# Altium footprint library IFBpcblib.PcbLib: 127 footprints (part 7 of 8)
Each footprint in its own frame and in the unit in brackets; x right, y up, seen from the top. Pads: shape width x height; smd on the part's side, far side on the other; paste and mask are expansions set on the pad; w line width, h text height; cw(c..) or ccw(c..) is an arc to the next point about the centre after c.
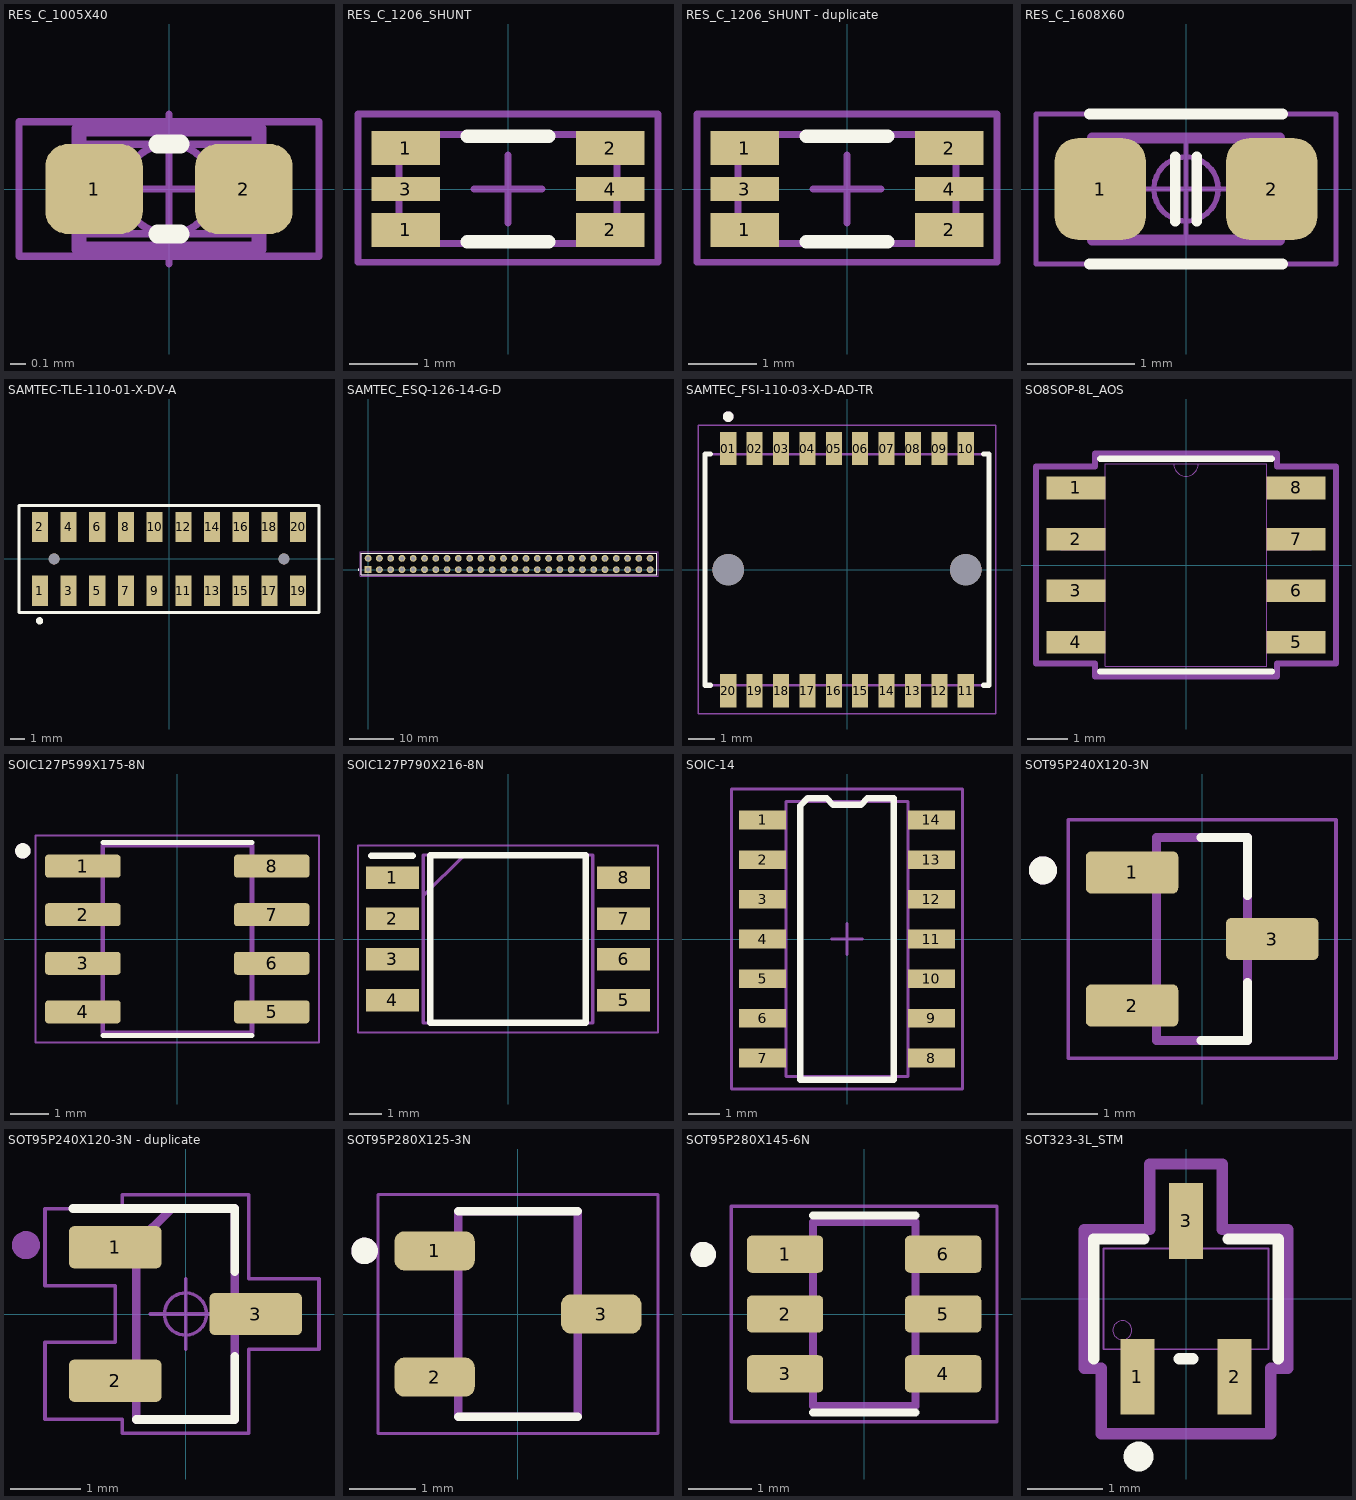
[diagram p6: the footprints below, top view; thin cyan lines are the x and y axes]

## RES_C_1005X40 [mm]
pads (2):
  rrect50% 0.65x0.6 smd mask+0.05: 1(-0.5,0) 2(0.5,0)
Top Overlay:
  lines w0.125: -0.075,-0.3 0.075,-0.3 ; -0.075,0.3 0.075,0.3
Top Assembly:
  lines w0.1: -0.6,-0.4 -0.6,0.4 0.6,0.4 0.6,-0.4 -0.6,-0.4
  text "'.Designator'" at -4.433,-0.827 h1.6
Top Courtyard:
  lines w0.05: -1,-0.45 -0.575,-0.45 1,-0.45 1,0.45 -1,0.45 -1,-0.45
Top Component Outline:
  rectangle: 0.25,-0.3 0.55,0.3
  rectangle: -0.55,-0.3 -0.25,0.3
  lines w0.05: -0.55,-0.3 -0.55,0.3 0.55,0.3 0.55,-0.3 -0.55,-0.3
Top Component Center:
  circle w0.05: c0,0 r0.3
  lines w0.05: -0.5,0 0.5,0 ; 0,-0.5 0,0.5
3D body "6-1622826-4.stp": height 0.38, standoff 0.02, extent -0.5,-0.25 0.5,0.25

## RES_C_1206_SHUNT [mm] "Chip Resistor, 2-Leads, Body 3.2x1.6mm, IPC Medium Density"
height 0.6
pads (6):
  rect 1x0.5 smd mask+0.05: 1(-1.5,-0.6) 1(-1.5,0.6) 2(1.5,-0.6) 2(1.5,0.6)
  rect 1x0.35 smd mask+0.05: 3(-1.5,0) 4(1.5,0)
Top Overlay:
  lines w0.2: -0.6,-0.775 0.6,-0.775 ; -0.6,0.775 0.6,0.775
Top Assembly:
  lines w0.1: -1.6,-0.8 1.6,-0.8 1.6,0.8 -1.6,0.8 -1.6,-0.8
  text ".Designator" at -1.4,-0.375 h0.75
Top Courtyard:
  lines w0.1: -0.5,0 0.5,0 ; 0,-0.5 0,0.5 ; -2.2,-1.075 -2.2,1.1 2.2,1.1 2.2,-1.075 -2.2,-1.075
Top 3D Body:
  lines w0.1: -1.6,-0.8 -1.6,0.8 1.6,0.8 1.6,-0.8 -1.6,-0.8
3D body "RES_1206.step": height 1, standoff 0, extent -1.6,-0.8 1.6,0.8

## RES_C_1206_SHUNT - duplicate [mm] "Chip Resistor, 2-Leads, Body 3.2x1.6mm, IPC Medium Density"
height 0.6
pads (6):
  rect 1x0.5 smd mask+0.05: 1(-1.5,-0.6) 1(-1.5,0.6) 2(1.5,-0.6) 2(1.5,0.6)
  rect 1x0.35 smd mask+0.05: 3(-1.5,0) 4(1.5,0)
Top Overlay:
  lines w0.2: -0.6,-0.775 0.6,-0.775 ; -0.6,0.775 0.6,0.775
Top Assembly:
  lines w0.1: -1.6,-0.8 -1.6,0.8 1.6,0.8 1.6,-0.8 -1.6,-0.8
  text ".Designator" at -1.4,-0.375 h0.75
Top Courtyard:
  lines w0.1: -0.5,0 0.5,0 ; 0,-0.5 0,0.5 ; -2.2,-1.075 2.2,-1.075 2.2,1.1 -2.2,1.1 -2.2,-1.075
Top 3D Body:
  lines w0.1: -1.6,-0.8 1.6,-0.8 1.6,0.8 -1.6,0.8 -1.6,-0.8
3D body "RES_1206.step": height 1, standoff 0, extent -1.6,-0.8 1.6,0.8

## RES_C_1608X60 [mm] "Chip Resistor, 2-Leads, Body 1.63x0.83mm, IPC High Density"
height 0.6
pads (2):
  rrect50% 0.85x0.95 smd: 1(-0.8,0) 2(0.8,0)
Top Overlay:
  lines w0.1: -0.9,-0.7 0.9,-0.7 ; -0.9,0.7 0.9,0.7 ; -0.1,-0.3 -0.1,0.3 ; 0.1,-0.3 0.1,0.3
Top Assembly:
  lines w0.1: -0.875,-0.475 0.875,-0.475 0.875,0.475 -0.875,0.475 -0.875,-0.475
  text "'.Designator'" at -4.217,-0.663 h1.6
Top Courtyard:
  lines w0.05: -1.4,-0.7 1.4,-0.7 1.4,0.7 -1.4,0.7 -1.4,-0.7
Top Component Outline:
  rectangle: 0.475,-0.475 0.875,0.475
  rectangle: -0.875,-0.475 -0.475,0.475
  lines w0.05: -0.875,-0.475 -0.875,0.475 0.875,0.475 0.875,-0.475 -0.875,-0.475
Top Component Center:
  circle w0.05: c0,0 r0.3
  lines w0.05: -0.5,0 0.5,0 ; 0,-0.5 0,0.5
3D body "RESC1608X60.step": height 0.6, standoff 0, extent -0.875,-0.475 0.875,0.475

## SAMTEC-TLE-110-01-X-DV-A [mm]
pads (22):
  rect 1.12x2.11 smd mask+0: 1(-9,-2.222) 2(-9,2.222) 3(-7,-2.222) 4(-7,2.222) 5(-5,-2.222) 6(-5,2.222) 7(-3,-2.222) 8(-3,2.222) 9(-1,-2.222) 10(-1,2.222) 11(1,-2.222) 12(1,2.222) 13(3,-2.222) 14(3,2.222) 15(5,-2.222) 16(5,2.222) 17(7,-2.222) 18(7,2.222) 19(9,-2.222) 20(9,2.222)
  round 0.76 hole 0.76 unplated: ""(-8,0) ""(8,0)
Top Overlay:
  circle w0.254: c-9.017,-4.318 r0.127
  lines w0.2: -10.45,-3.728 -10.45,3.729 10.45,3.729 10.45,-3.728 -10.45,-3.728
Top Paste:
  region: -8.44,-1.167 -9.56,-1.167 -9.56,-3.277 -8.44,-3.277
  region: -8.44,3.277 -9.56,3.277 -9.56,1.167 -8.44,1.167
  region: -6.44,3.277 -7.56,3.277 -7.56,1.167 -6.44,1.167
  region: -6.44,-1.167 -7.56,-1.167 -7.56,-3.277 -6.44,-3.277
  region: -4.44,3.277 -5.56,3.277 -5.56,1.167 -4.44,1.167
  region: -4.44,-1.167 -5.56,-1.167 -5.56,-3.277 -4.44,-3.277
  region: -2.44,3.277 -3.56,3.277 -3.56,1.167 -2.44,1.167
  region: -2.44,-1.167 -3.56,-1.167 -3.56,-3.277 -2.44,-3.277
  region: -0.44,3.277 -1.56,3.277 -1.56,1.167 -0.44,1.167
  region: -0.44,-1.167 -1.56,-1.167 -1.56,-3.277 -0.44,-3.277
  region: 1.56,3.277 0.44,3.277 0.44,1.167 1.56,1.167
  region: 1.56,-1.167 0.44,-1.167 0.44,-3.277 1.56,-3.277
  region: 3.56,-1.167 2.44,-1.167 2.44,-3.277 3.56,-3.277
  region: 3.56,3.277 2.44,3.277 2.44,1.167 3.56,1.167
  region: 5.56,-1.167 4.44,-1.167 4.44,-3.277 5.56,-3.277
  region: 5.56,3.277 4.44,3.277 4.44,1.167 5.56,1.167
  region: 7.56,3.277 6.44,3.277 6.44,1.167 7.56,1.167
  region: 7.56,-1.167 6.44,-1.167 6.44,-3.277 7.56,-3.277
  region: 9.56,3.277 8.44,3.277 8.44,1.167 9.56,1.167
  region: 9.56,-1.167 8.44,-1.167 8.44,-3.277 9.56,-3.277
Top Solder:
  circle w0: c-8,0 r0.431
  circle w0: c8,0 r0.431
  region: -8.389,3.328 -9.611,3.328 -9.611,1.116 -8.389,1.116
  region: -8.389,-1.116 -9.611,-1.116 -9.611,-3.328 -8.389,-3.328
  region: -6.389,3.328 -7.611,3.328 -7.611,1.116 -6.389,1.116
  region: -6.389,-1.116 -7.611,-1.116 -7.611,-3.328 -6.389,-3.328
  region: -4.389,3.328 -5.611,3.328 -5.611,1.116 -4.389,1.116
  region: -4.389,-1.116 -5.611,-1.116 -5.611,-3.328 -4.389,-3.328
  region: -2.389,3.328 -3.611,3.328 -3.611,1.116 -2.389,1.116
  region: -2.389,-1.116 -3.611,-1.116 -3.611,-3.328 -2.389,-3.328
  region: -0.389,3.328 -1.611,3.328 -1.611,1.116 -0.389,1.116
  region: -0.389,-1.116 -1.611,-1.116 -1.611,-3.328 -0.389,-3.328
  region: 1.611,3.328 0.389,3.328 0.389,1.116 1.611,1.116
  region: 1.611,-1.116 0.389,-1.116 0.389,-3.328 1.611,-3.328
  region: 3.611,3.328 2.389,3.328 2.389,1.116 3.611,1.116
  region: 3.611,-1.116 2.389,-1.116 2.389,-3.328 3.611,-3.328
  region: 5.611,3.328 4.389,3.328 4.389,1.116 5.611,1.116
  region: 5.611,-1.116 4.389,-1.116 4.389,-3.328 5.611,-3.328
  region: 7.611,3.328 6.389,3.328 6.389,1.116 7.611,1.116
  region: 7.611,-1.116 6.389,-1.116 6.389,-3.328 7.611,-3.328
  region: 9.611,3.328 8.389,3.328 8.389,1.116 9.611,1.116
  region: 9.611,-1.116 8.389,-1.116 8.389,-3.328 9.611,-3.328
Bottom Solder:
  circle w0: c-8,0 r0.431
  circle w0: c8,0 r0.431
3D body "TLE-110-01-G-DV-A-TR.stp": height 4.32, standoff -0.81, extent -9.995,-2.781 9.995,2.781

## SAMTEC_ESQ-126-14-G-D [mm]
pads (52):
  rect 1.53x1.53 hole 0.9: 01(0,0)
  round 1.53 hole 0.9: 02(0,2.54) 03(2.54,0) 04(2.54,2.54) 05(5.08,0) 06(5.08,2.54) 07(7.62,0) 08(7.62,2.54) 09(10.16,0) 10(10.16,2.54) 11(12.7,0) 12(12.7,2.54) 13(15.24,0) 14(15.24,2.54) 15(17.78,0) 16(17.78,2.54) 17(20.32,0) 18(20.32,2.54) 19(22.86,0) 20(22.86,2.54) 21(25.4,0) 22(25.4,2.54) 23(27.94,0) 24(27.94,2.54) 25(30.48,0) 26(30.48,2.54) 27(33.02,0) 28(33.02,2.54) 29(35.56,0) 30(35.56,2.54) 31(38.1,0) 32(38.1,2.54) 33(40.64,0) 34(40.64,2.54) 35(43.18,0) 36(43.18,2.54) 37(45.72,0) 38(45.72,2.54) 39(48.26,0) 40(48.26,2.54) 41(50.8,0) 42(50.8,2.54) 43(53.34,0) 44(53.34,2.54) 45(55.88,0) 46(55.88,2.54) 47(58.42,0) 48(58.42,2.54) 49(60.96,0) 50(60.96,2.54) 51(63.5,0) 52(63.5,2.54)
Top Overlay:
  circle w0.2: c-2.175,0 r0.1
  lines w0.2: -1.525,-1.205 65.025,-1.205 65.025,3.745 -1.525,3.745 -1.525,-1.205
Mechanical 13:
  circle w0.2: c-2.175,0 r0.1
  lines w0.1: -1.525,-1.205 -1.525,3.745 ; -1.525,-1.205 65.025,-1.205 ; -1.525,-1.205 -1.525,3.745 ; -1.525,3.745 65.025,3.745 ; -1.525,3.745 65.025,3.745 ; 65.025,-1.205 65.025,3.745 ; 65.025,-1.205 65.025,3.745
Mechanical 15:
  lines w0.05: -1.775,-1.455 65.275,-1.455 65.275,3.995 -1.775,3.995 -1.775,-1.455
3D body "ESQ-126-14-G-D.stp": height 11.1, standoff -12.14, extent -1.524,-1.27 65.024,3.81

## SAMTEC_FSI-110-03-X-D-AD-TR [mm]
pads (22):
  rect 0.61x1.26 smd: 01(-4.5,4.59) 02(-3.5,4.59) 03(-2.5,4.59) 04(-1.5,4.59) 05(-0.5,4.59) 06(0.5,4.59) 07(1.5,4.59) 08(2.5,4.59) 09(3.5,4.59) 10(4.5,4.59) 11(4.5,-4.59) 12(3.5,-4.59) 13(2.5,-4.59) 14(1.5,-4.59) 15(0.5,-4.59) 16(-0.5,-4.59) 17(-1.5,-4.59) 18(-2.5,-4.59) 19(-3.5,-4.59) 20(-4.5,-4.59)
  round 1.19 hole 1.19 unplated: ""(-4.5,0) ""(4.5,0)
Top Overlay:
  circle w0.2: c-4.5,5.8 r0.1
  lines w0.2: -5.18,-4.38 -5.38,-4.38 -5.38,4.38 -5.18,4.38 ; 5.18,-4.38 5.38,-4.38 5.38,4.38 5.18,4.38
Mechanical 13:
  circle w0.2: c-4.5,5.8 r0.1
  lines w0.1: -5.38,-4.38 5.38,-4.38 5.38,4.38 -5.38,4.38 -5.38,-4.38
Mechanical 15:
  lines w0.05: -5.63,-5.47 5.63,-5.47 5.63,5.47 -5.63,5.47 -5.63,-5.47
3D body "FSI-110-03-G-D-AD.stp": height 4.37, standoff -1.42, extent -5.38,-5 5.38,5

## SO8SOP-8L_AOS [mil]
pads (8):
  rect 57.5x22 smd paste+0 mask+0: 1(-107.25,75) 2(-107.25,25) 3(-107.25,-25) 4(-107.25,-75) 5(107.25,-75) 6(107.25,-25) 7(107.25,25) 8(107.25,75)
Top Overlay:
  lines w6: -83.5,-103.5 83.5,-103.5 ; -83.5,103.5 83.5,103.5
Mechanical 13:
  lines w0: -12,98.5 ccw(c0,98.5) 12,98.5
  lines w1: -122,-85 -78.5,-85 -78.5,-65 -122,-65 -122,-85 ; -122,-35 -78.5,-35 -78.5,-15 -122,-15 -122,-35 ; -122,15 -78.5,15 -78.5,35 -122,35 -122,15 ; -122,65 -78.5,65 -78.5,85 -122,85 -122,65 ; -78.5,-98.5 -78.5,98.5 78.5,98.5 78.5,-98.5 -78.5,-98.5 ; 78.5,-85 122,-85 122,-65 78.5,-65 78.5,-85 ; 78.5,-35 122,-35 122,-15 78.5,-15 78.5,-35 ; 78.5,15 122,15 122,35 78.5,35 78.5,15 ; 78.5,65 122,65 122,85 78.5,85 78.5,65
Mechanical 15:
  lines w6: -146,-96 -88.5,-96 -88.5,-108.5 88.5,-108.5 88.5,-96 146,-96 146,96 88.5,96 88.5,108.5 -88.5,108.5 -88.5,96 -146,96 -146,-96
3D body "SO8SOP-8L_AOS.step": height 69.09, standoff 0, extent -122.01,-98.5 122.01,98.5

## SOIC127P599X175-8N [mm] "SN65HVD230DR"
pads (8):
  rrect25% 1.97x0.6 smd: 1(-2.47,1.905) 2(-2.47,0.635) 3(-2.47,-0.635) 4(-2.47,-1.905) 5(2.47,-1.905) 6(2.47,-0.635) 7(2.47,0.635) 8(2.47,1.905)
Top Overlay:
  circle w0.2: c-4.04,2.305 r0.1
  lines w0.127: -1.95,-2.525 1.95,-2.525 ; -1.95,2.525 1.95,2.525
Mechanical 13:
  circle w0.2: c-4.04,2.305 r0.1
  lines w0.127: -1.95,-2.452 1.95,-2.452 1.95,2.452 -1.95,2.452 -1.95,-2.452
Mechanical 15:
  lines w0.05: -3.705,-2.702 3.705,-2.702 3.705,2.702 -3.705,2.702 -3.705,-2.702
3D body "step_temp.STEP": height 1.75, standoff 0, extent -3,-2.45 3,2.45

## SOIC127P790X216-8N [mm]
pads (8):
  rect 1.65x0.7 smd: 1(-3.6,1.905) 2(-3.6,0.635) 3(-3.6,-0.635) 4(-3.6,-1.905) 5(3.6,-1.905) 6(3.6,-0.635) 7(3.6,0.635) 8(3.6,1.905)
Top Overlay:
  lines w0.2: -4.267,2.591 -2.972,2.591 ; -2.425,-2.615 -2.425,2.615 2.425,2.615 2.425,-2.615 -2.425,-2.615
Mechanical 15:
  lines w0.1: -2.64,1.345 -1.37,2.615 ; -2.64,-2.615 -2.64,2.615 2.64,2.615 2.64,-2.615 -2.64,-2.615
Mechanical 20:
  lines w0.05: -4.675,-2.915 -4.675,2.915 4.675,2.915 4.675,-2.915 -4.675,-2.915
3D body "AS3004204-0108X0PSAY.stp": height 2.16, standoff 0, extent -3.95,-2.615 3.95,2.615

## SOIC-14 [mm] "SOIC 150mil, 14-Leads, Body 8.65x3.9mm, Pitch 1.27mm"
height 1.75
pads (14):
  rect 1.5x0.6 smd: 1(-2.7,3.81) 2(-2.7,2.54) 3(-2.7,1.27) 4(-2.7,0) 5(-2.7,-1.27) 6(-2.7,-2.54) 7(-2.7,-3.81) 8(2.7,-3.81) 9(2.7,-2.54) 10(2.7,-1.27) 11(2.7,0) 12(2.7,1.27) 13(2.7,2.54) 14(2.7,3.81)
Top Overlay:
  lines w0.2: -1.5,-4.5 -1.5,4.265 -1.265,4.5 -0.65,4.5 -0.45,4.3 0.45,4.3 0.65,4.5 1.5,4.5 1.5,-4.5 -1.5,-4.5
Top Assembly:
  lines w0.1: -1.95,-4.4 1.95,-4.4 1.95,4.4 -1.95,4.4 -1.95,-4.4
  text "1" at -3.429,3.937 h1
Top Courtyard:
  lines w0.1: -0.5,0 0.5,0 ; 0,-0.5 0,0.5 ; -3.7,-4.8 3.7,-4.8 3.7,4.8 -3.7,4.8 -3.7,-4.8
3D body "SOIC-14.STEP": height 1.75, standoff 0, extent -3.1,-4.375 3.1,4.375

## SOT95P240X120-3N [mm]
height 1.2
pads (3):
  rrect25% 1.32x0.6 smd: 1(-1,0.95) 2(-1,-0.95) 3(1,0)
Top Overlay:
  circle w0.2: c-2.27,0.98 r0.1
  lines w0.127: -0.02,-1.45 0.65,-1.45 0.65,-0.62 ; -0.02,1.45 0.65,1.45 0.65,0.62
Mechanical 13:
  circle w0.2: c-2.27,0.98 r0.1
  lines w0.127: -0.65,-1.45 0.65,-1.45 0.65,1.45 -0.65,1.45 -0.65,-1.45
Mechanical 15:
  lines w0.05: -1.91,-1.7 -1.91,1.7 1.91,1.7 1.91,-1.7 -1.91,-1.7
3D body "step_temp.STEP": height 1.2, standoff 0, extent -1.2,-1.45 1.2,1.45

## SOT95P240X120-3N - duplicate [mm]
height 1.2
pads (3):
  rrect25% 1.32x0.6 smd: 1(-1,0.95) 2(-1,-0.95) 3(1,0)
Top Overlay:
  lines w0.125: -1.6,1.5 0.6,1.5 0.7,1.5 0.7,0.6 ; -0.7,-1.5 0.7,-1.5 0.7,-0.6
Top Assembly:
  lines w0.125: -0.7,-1.5 0.7,-1.5 0.7,1.5 -0.2,1.5 -0.7,1 -0.7,-1.5
  text "'.Designator'" at -3.952,-0.622 h1.5
Top Courtyard:
  lines w0.05: -2,-1.5 -2,-0.4 -1,-0.4 -1,0.4 -2,0.4 -2,1.5 -0.9,1.5 -0.9,1.7 0.9,1.7 0.9,0.5 1.9,0.5 1.9,-0.5 0.9,-0.5 0.9,-1.7 -0.9,-1.7 -0.9,-1.5 -2,-1.5
Top Component Center:
  circle w0.05: c0,0 r0.3
  lines w0.05: -0.5,0 0.5,0 ; 0,-0.5 0,0.5
Mechanical 13:
  circle w0.2: c-2.27,0.98 r0.1
3D body "step_temp.STEP": height 1.2, standoff -0.1, extent -1.3,-1.52 1.3,1.52

## SOT95P280X125-3N [mm]
height 1.25
pads (3):
  rrect50% 1.21x0.59 smd: 1(-1.255,0.95) 2(-1.255,-0.95) 3(1.255,0)
Top Overlay:
  circle w0.2: c-2.31,0.95 r0.1
  lines w0.127: -0.9,-1.55 0.9,-1.55 ; -0.9,1.55 0.9,1.55
Mechanical 13:
  circle w0.2: c-2.31,0.95 r0.1
  lines w0.127: -0.9,-1.55 -0.9,1.55 0.9,1.55 0.9,-1.55 -0.9,-1.55
Mechanical 15:
  lines w0.05: -2.11,-1.8 -2.11,1.8 2.11,1.8 2.11,-1.8 -2.11,-1.8
3D body "step_temp.STEP": height 1.25, standoff 0, extent -1.4,-1.45 1.4,1.45

## SOT95P280X145-6N [mm]
pads (6):
  rrect25% 1.21x0.59 smd: 1(-1.255,0.95) 2(-1.255,0) 3(-1.255,-0.95) 4(1.255,-0.95) 5(1.255,0) 6(1.255,0.95)
Top Overlay:
  circle w0.2: c-2.555,0.945 r0.1
  lines w0.127: -0.813,-1.565 0.813,-1.565 ; -0.813,1.565 0.813,1.565
Mechanical 13:
  circle w0.2: c-2.555,0.945 r0.1
  lines w0.127: -0.813,-1.462 -0.813,1.462 0.813,1.462 0.813,-1.462 -0.813,-1.462
Mechanical 15:
  lines w0.05: -2.11,-1.713 2.11,-1.713 2.11,1.713 -2.11,1.713 -2.11,-1.713
3D body "step_temp.STEP": height 1.42, standoff -0.03, extent -1.4,-1.462 1.4,1.462

## SOT323-3L_STM [mil]
pads (3):
  rect 18x40 smd paste+0 mask+0: 1(-25.59,-41) 2(25.59,-41) 3(0,41)
Top Overlay:
  circle w7.87: c-25,-83 r3.94
  lines w6: -48.5,-31.5 -48.5,31.5 -22.1,31.5 ; -3.49,-31.5 3.49,-31.5 ; 22.1,31.5 48.5,31.5 48.5,-31.5
Mechanical 13:
  circle w0: c-33.5,-16.5 r5
  lines w1: -43.5,-26.5 43.5,-26.5 43.5,26.5 -43.5,26.5 -43.5,-26.5 ; -33.59,-47 -33.59,-26.5 -17.59,-26.5 -17.59,-47 -33.59,-47 ; -8,26.5 8,26.5 8,47 -8,47 -8,26.5 ; 17.59,-47 17.59,-26.5 33.59,-26.5 33.59,-47 17.59,-47
Mechanical 15:
  lines w6: -53.5,-36.5 -53.5,36.5 -19,36.5 -19,71 19,71 19,36.5 53.5,36.5 53.5,-36.5 44.59,-36.5 44.59,-71 -44.59,-71 -44.59,-36.5 -53.5,-36.5
3D body "SOT323-3L_STM.step": height 43.11, standoff 0, extent -43.5,-47.01 43.5,47.01